# Altium footprint library HBRIDGE_PCB_LIB.PcbLib: 18 footprints (part 1 of 2)
Each footprint in its own frame and in the unit in brackets; x right, y up, seen from the top. Pads: shape width x height; smd on the part's side, far side on the other; paste and mask are expansions set on the pad; w line width, h text height; cw(c..) or ccw(c..) is an arc to the next point about the centre after c.
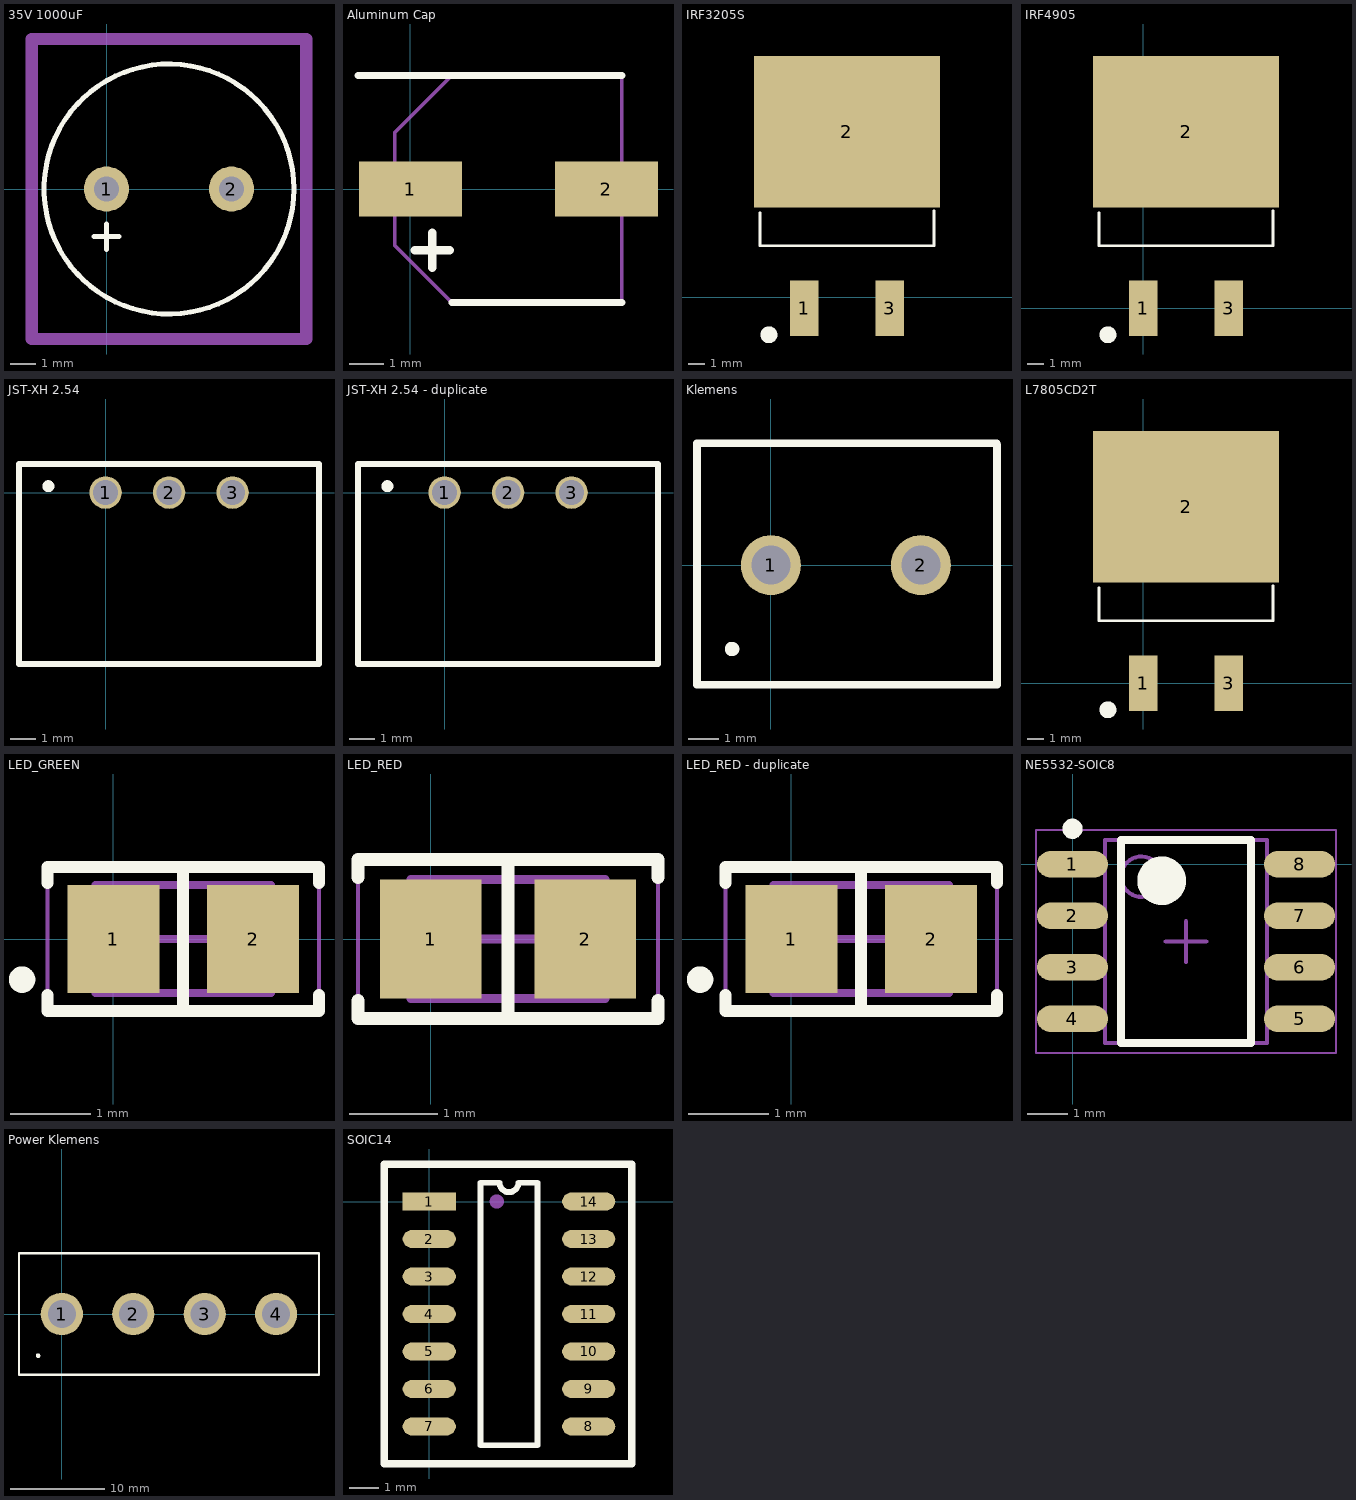
[diagram p0: the footprints below, top view; thin cyan lines are the x and y axes]

## 35V 1000uF [mm]
pads (2):
  round 1.8 hole 1: 1(0,0) 2(5,0)
Top Overlay:
  circle w0.2: c2.5,0 r5
  lines w0.2: -0.508,-1.905 0.508,-1.905 ; 0,-2.413 0,-1.397
Mechanical 15:
  lines w0.5: -3,-6 -3,6 8,6 8,-6 -3,-6
3D body "User Library-Cap-EL(10x20-5).STEP": height 20, standoff -3.3, extent -2.5,-5 7.502,5

## Aluminum Cap [mm]
pads (2):
  rect 3x1.6 smd: 1(0,0) 2(5.7,0)
Top Overlay:
  lines w0.2: -1.525,3.3 6.15,3.3 ; 1.2,-3.3 6.15,-3.3
  lines w0.254: 0.127,-1.778 1.143,-1.778 ; 0.635,-2.286 0.635,-1.27
Mechanical 15:
  lines w0.1: -0.45,-1.65 1.2,-3.3 6.15,-3.3 6.15,3.3 1.2,3.3 -0.45,1.65 -0.45,-1.65
3D body "100uF 35V 6.3x7.7mm SMD Aluminum v3.step": height 7.71, standoff -0.04, extent -0.679,-3.3 6.521,3.3

## IRF3205S [mm]
pads (3):
  rect 1.7x3.3 smd paste+0 mask+0.051: 1(38.647,-0.65) 3(43.727,-0.65)
  rect 11x9 smd paste+0 mask+0.051: 2(41.187,9.822)
Top Overlay:
  circle w0.5: c36.557,-2.214 r0.25
  lines w0.152: 36.031,5.029 36.031,3.055 46.343,3.055 46.343,5.129
3D body "IRF3205SPBF.stp": height 4.07, standoff -0.1, extent 36.323,-1.827 45.973,14.053

## IRF4905 [mm]
pads (3):
  rect 1.7x3.3 smd paste+0 mask+0.051: 1(0,0) 3(5.08,0)
  rect 11x9 smd paste+0 mask+0.051: 2(2.54,10.472)
Top Overlay:
  circle w0.5: c-2.09,-1.564 r0.25
  lines w0.152: -2.616,5.679 -2.616,3.705 7.696,3.705 7.696,5.779
3D body "IRF3205SPBF.stp": height 4.07, standoff -0.1, extent -2.324,-1.177 7.326,14.703

## JST-XH 2.54 [mm]
pads (3):
  round 1.3 hole 1: 1(0,0) 2(2.54,0) 3(5.08,0)
Top Overlay:
  circle w0.254: c-2.286,0.254 r0.113
  lines w0.254: -3.46,-6.857 8.54,-6.857 8.54,1.143 -3.46,1.143 -3.46,-6.857

## JST-XH 2.54 - duplicate [mm]
pads (3):
  round 1.3 hole 1: 1(0,0) 2(2.54,0) 3(5.08,0)
Top Overlay:
  circle w0.254: c-2.286,0.254 r0.113
  lines w0.254: -3.46,-6.857 -3.46,1.143 8.54,1.143 8.54,-6.857 -3.46,-6.857

## Klemens [mm]
pads (2):
  round 2 hole 1.3: 1(0,0) 2(5,0)
Top Overlay:
  circle w0.254: c-1.295,-2.794 r0.113
  lines w0.254: 7.518,4.064 -2.464,4.064 -2.464,-3.988 7.536,-3.988 7.536,4.012

## L7805CD2T [mm]
pads (3):
  rect 1.7x3.3 smd paste+0 mask+0.051: 1(0,0) 3(5.08,0)
  rect 11x9 smd paste+0 mask+0.051: 2(2.54,10.472)
Top Overlay:
  circle w0.5: c-2.09,-1.564 r0.25
  lines w0.152: -2.616,5.679 -2.616,3.705 7.696,3.705 7.696,5.779
3D body "L7805CD2T-TR.STEP": height 4.61, standoff -0.22, extent -2.56,-0.6 7.64,14.824

## LED_GREEN [mm]
pads (2):
  rect 1.15x1.35 smd: 1(0,0) 2(1.75,0)
Top Overlay:
  circle w0.254: c-1.143,-0.508 r0.038
  lines w0.15: -0.825,-0.7 -0.825,-0.9 2.575,-0.9 2.575,-0.7 ; -0.825,0.7 -0.825,0.9 2.575,0.9 2.575,0.7 ; 0.875,-0.9 0.875,0.9
Mechanical 13:
  lines w0.1: -0.225,-0.675 1.975,-0.675 1.975,0.675 -0.225,0.675 -0.225,-0.675
Mechanical 15:
  lines w0.05: -0.825,-0.95 2.575,-0.95 2.575,0.95 -0.825,0.95 -0.825,-0.95
  lines w0.1: 0.375,0 1.375,0 ; 0.875,-0.5 0.875,0.5
3D body "LED-0805-green.step": height 0.8, standoff -0.01, extent -0.125,-0.625 1.875,0.625

## LED_RED [mm]
pads (2):
  rect 1.15x1.35 smd: 1(0,0) 2(1.75,0)
Top Overlay:
  lines w0.15: -0.825,-0.7 -0.825,-0.9 2.575,-0.9 2.575,-0.7 ; -0.825,0.7 -0.825,0.9 2.575,0.9 2.575,0.7 ; 0.875,-0.9 0.875,0.9
Mechanical 13:
  lines w0.1: -0.225,-0.675 -0.225,0.675 1.975,0.675 1.975,-0.675 -0.225,-0.675
Mechanical 15:
  lines w0.05: -0.825,-0.95 -0.825,0.95 2.575,0.95 2.575,-0.95 -0.825,-0.95
  lines w0.1: 0.375,0 1.375,0 ; 0.875,-0.5 0.875,0.5
3D body "LED-0805-red.step": height 0.8, standoff -0.01, extent -0.125,-0.625 1.875,0.625

## LED_RED - duplicate [mm]
pads (2):
  rect 1.15x1.35 smd: 1(0,0) 2(1.75,0)
Top Overlay:
  circle w0.254: c-1.143,-0.508 r0.038
  lines w0.15: -0.825,-0.7 -0.825,-0.9 2.575,-0.9 2.575,-0.7 ; -0.825,0.7 -0.825,0.9 2.575,0.9 2.575,0.7 ; 0.875,-0.9 0.875,0.9
Mechanical 13:
  lines w0.1: -0.225,-0.675 1.975,-0.675 1.975,0.675 -0.225,0.675 -0.225,-0.675
Mechanical 15:
  lines w0.05: -0.825,-0.95 2.575,-0.95 2.575,0.95 -0.825,0.95 -0.825,-0.95
  lines w0.1: 0.375,0 1.375,0 ; 0.875,-0.5 0.875,0.5
3D body "LED-0805-red.step": height 0.8, standoff -0.01, extent -0.125,-0.625 1.875,0.625

## NE5532-SOIC8 [mm] "SOIC, 8-Leads, Body 4,91x3,91mm, Pitch 1,27mm, IPC Medium Density"
height 1.75
pads (8):
  oval 1.75x0.65 smd: 1(-0.006,0) 2(-0.006,-1.27) 3(-0.006,-2.54) 4(-0.006,-3.81) 5(5.594,-3.81) 6(5.594,-2.54) 7(5.594,-1.27) 8(5.594,0)
Top Overlay:
  circle w0.6: c2.194,-0.405 r0.3
  circle w0.25: c-0.006,0.875 r0.125
  lines w0.2: 1.194,-4.405 4.394,-4.405 4.394,0.595 1.194,0.595 1.194,-4.405
Mechanical 13:
  circle w0.1: c1.694,-0.305 r0.5
  lines w0.1: 0.794,-4.405 4.794,-4.405 4.794,0.595 0.794,0.595 0.794,-4.405
Mechanical 15:
  lines w0.05: -0.906,-4.655 6.494,-4.655 6.494,0.845 -0.906,0.845 -0.906,-4.655
  lines w0.1: 2.294,-1.905 3.294,-1.905 ; 2.794,-2.405 2.794,-1.405
3D body "SOIC127P600X175-8N.step": height 1.75, standoff 0, extent -0.206,-4.405 5.794,0.595

## PCBComponent_1 [mm]

## PCBComponent_1 - duplicate [mm]

## Power Klemens [mm]
pads (4):
  round 4.5 hole 3: 1(0,0) 2(7.62,0) 3(15.24,0) 4(22.86,0)
Top Overlay:
  circle w0.254: c-2.54,-4.445 r0.113
  lines w0.254: -4.57,-6.477 3.43,-6.477 19.43,-6.477 27.43,-6.477 ; -4.568,-6.475 -4.568,6.477 27.432,6.477 27.432,-6.475

## SOIC14 [mm]
pads (14):
  rect 1.8x0.6 smd: 1(0,0)
  oval 1.8x0.6 smd: 2(0,-1.27) 3(0,-2.54) 4(0,-3.81) 5(0,-5.08) 6(0,-6.35) 7(0,-7.62) 8(5.4,-7.62) 9(5.4,-6.35) 10(5.4,-5.08) 11(5.4,-3.81) 12(5.4,-2.54) 13(5.4,-1.27) 14(5.4,0)
Top Overlay:
  lines w0.2: 1.735,-8.255 1.735,0.635 2.382,0.635 ccw(c2.7,0.635) 3.017,0.635 3.665,0.635 3.665,-8.255 1.735,-8.255
  lines w0.254: -1.524,-8.89 -1.524,1.27 6.858,1.27 6.858,-8.89 -1.524,-8.89
Mechanical 15:
  circle w0.254: c2.286,0 r0.113
3D body "User Library-so14-1.STEP": height 1.7, standoff 0, extent -0.46,-8.21 5.54,0.59